# Altium schematic symbol library SCH - IC-Memory - 47219-2001.SchLib: 1 symbol
Pins are listed as number, name and electrical type; pins without a type are passive.

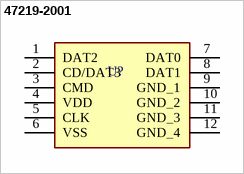
[diagram p0: symbol 47219-2001]

## 47219-2001
designator U?
pins: 1 DAT2, 2 CD/DAT3, 3 CMD, 4 VDD, 5 CLK, 6 VSS, 7 DAT0, 8 DAT1, 9 GND_1, 10 GND_2, 11 GND_3, 12 GND_4